# EAGLE library part TJA1050 (library PI_Shield_Library)
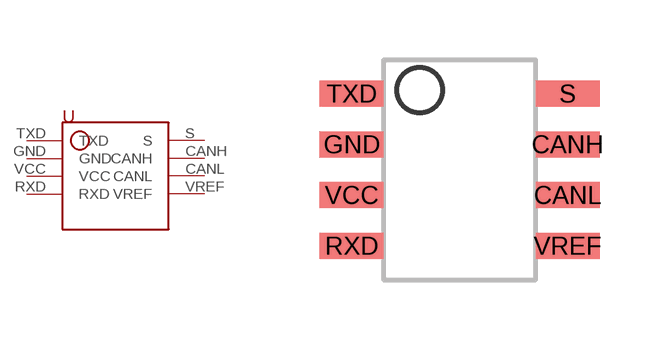
[diagram p1: symbol with the pads of TJA1050; footprint TJA1050]

Designator prefix -

## TJA1050  [TJA1050]
CANH  CANH
CANL  CANL
GND  GND
RXD  RXD
S  S
TXD  TXD
VCC  VCC
VREF  VREF

## Footprint TJA1050 (pad centres in mm)
smd 1.6 x 0.65: CANH 5.4,2.54; CANL 5.4,1.27; GND 0,2.54; RXD 0,0; S 5.4,3.81; TXD 0,3.81; VCC 0,1.27; VREF 5.4,0